# EAGLE library part PS004 (library PP_Electromechanical)
Manufacturer Part #: PS004 Manufacturer: Well Buying Description: Illuminated Pushbutton Switches PUSH SW DPDT ON-ON
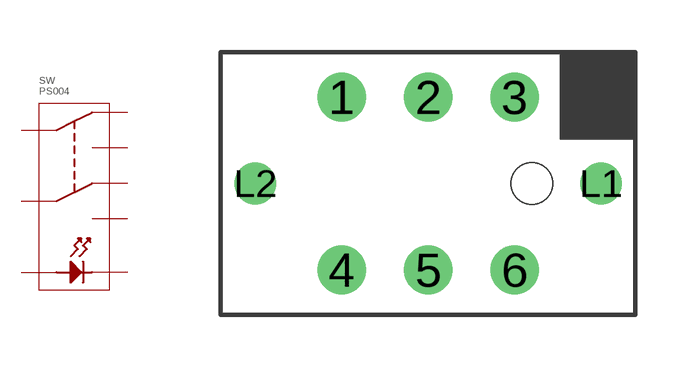
[diagram p1: symbol with the pads of PS004_SW; footprint PS004_SW]

Designator prefix SW

## PS004  [PS004_SW]
1  1
2  2
3  3
4  4
5  5
6  6
L1  L2
L2  L1

## Footprint PS004_SW (pad centres in mm)
drill 0.9: 1 -2.5,2.5; 2 0,2.5; 3 2.5,2.5; 4 -2.5,-2.5; 5 0,-2.5; 6 2.5,-2.5
drill 0.7: L1 5,0; L2 -5,0
hole 1.2 at 3,0